# EAGLE library part HP5_TRAFO (library MDT_TRAFO)
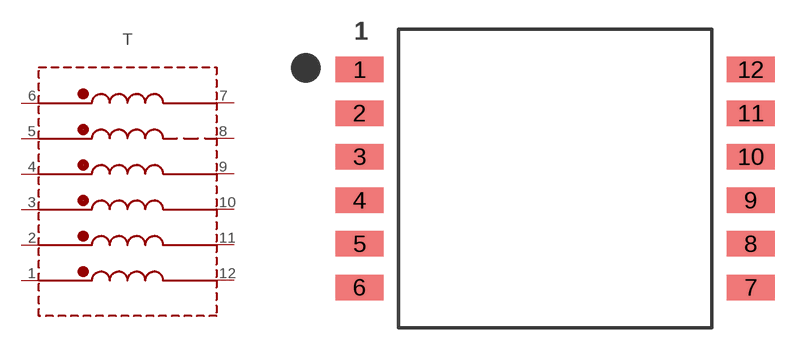
[diagram p0: symbol with the pads of HP5; footprint HP5]

Designator prefix T

## HP5_TRAFOHP5  [HP5]
1  S1  pas
2  S2  pas
3  S3  pas
4  S4  pas
5  S5  pas
6  S6  pas
7  F6  pas
8  F5  pas
9  F4  pas
10  F3  pas
11  F2  pas
12  F1  pas

## Footprint HP5 (pad centres in mm)
smd 3.3 x 1.75: 1 -13.46,7.5; 2 -13.46,4.5; 3 -13.46,1.5; 4 -13.46,-1.5; 5 -13.46,-4.5; 6 -13.46,-7.5; 7 13.46,-7.5; 8 13.46,-4.5; 9 13.46,-1.5; 10 13.46,1.5; 11 13.46,4.5; 12 13.46,7.5